# Altium footprint library CustomizedLib.PcbLib: 15 footprints
Each footprint in its own frame and in the unit in brackets; x right, y up, seen from the top. Pads: shape width x height; smd on the part's side, far side on the other; paste and mask are expansions set on the pad; w line width, h text height; cw(c..) or ccw(c..) is an arc to the next point about the centre after c.
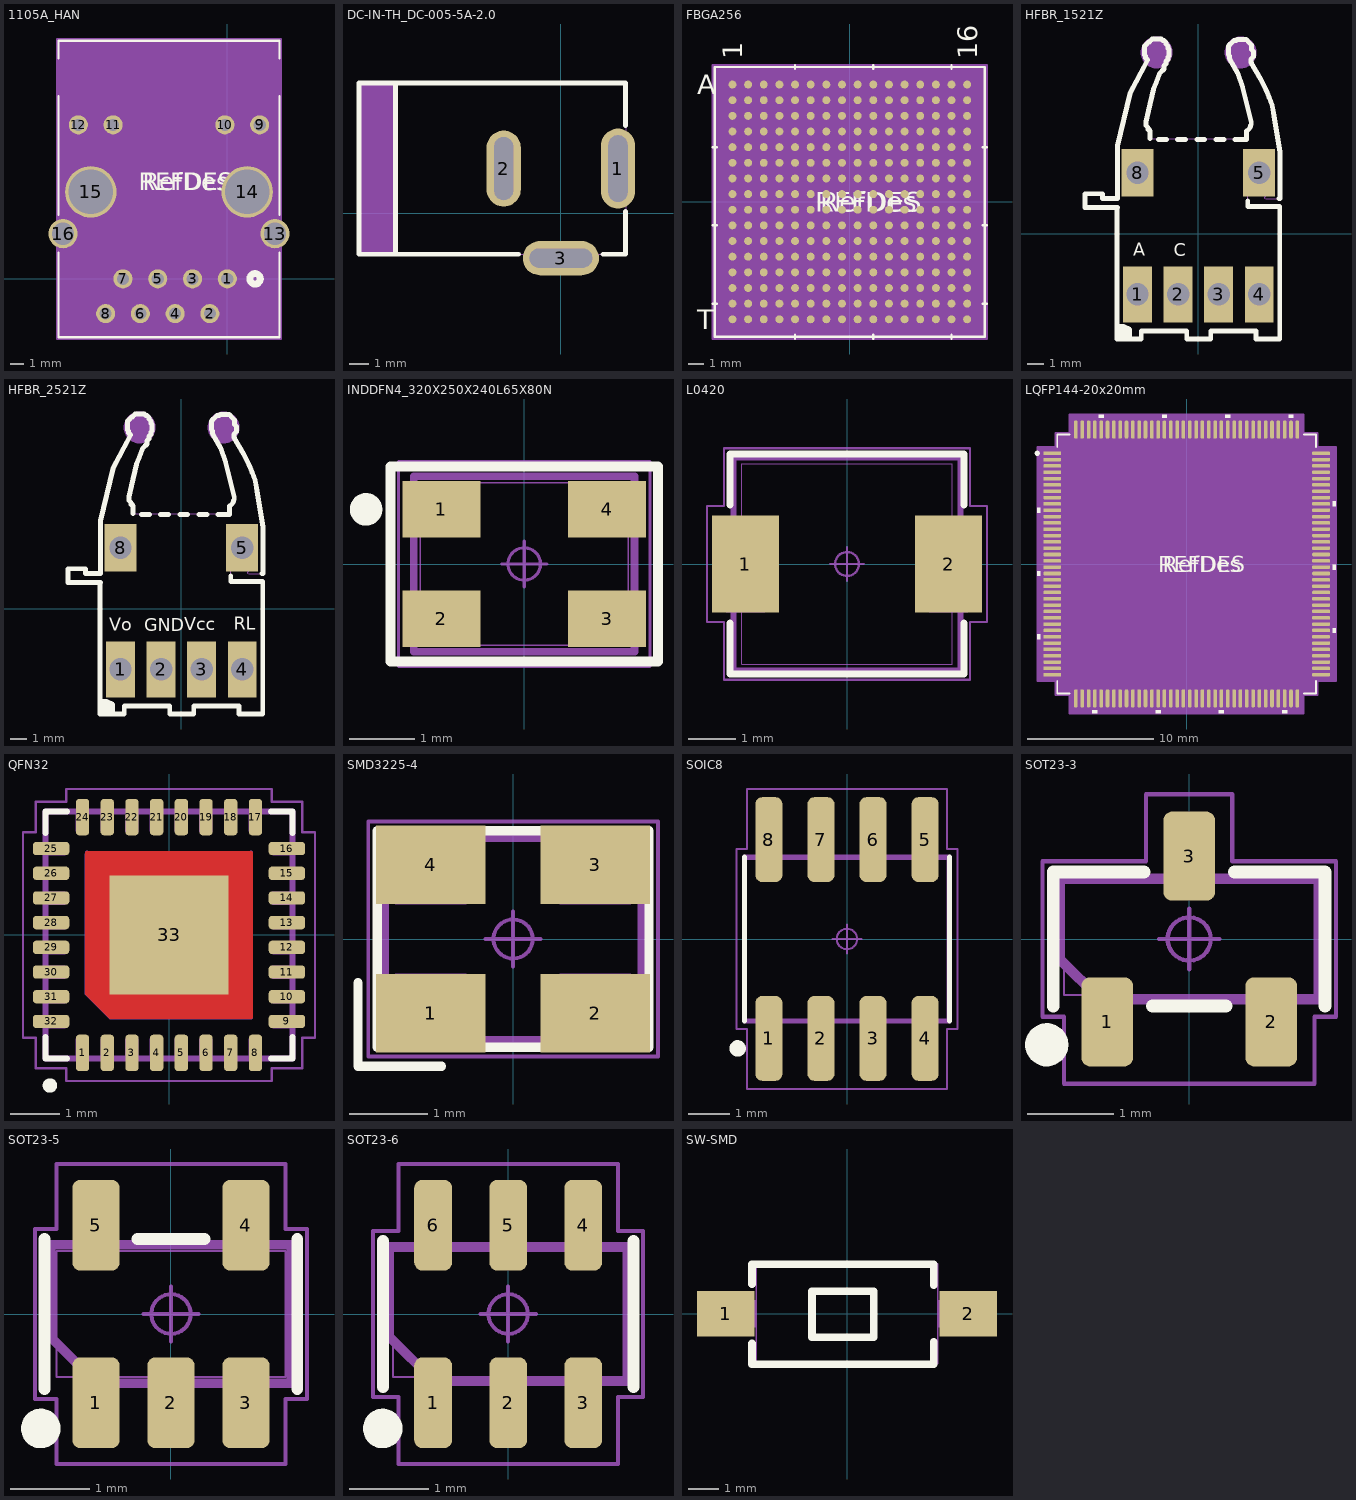
[diagram p0: the footprints below, top view; thin cyan lines are the x and y axes]

## 1105A_HAN [mil]
pads (16):
  round 55 / inner round 60 / far side round 55 hole 35 paste-99999 mask+0: 1(0,0) 2(-50,-100) 3(-100,0) 4(-150,-100) 5(-200,0) 6(-250,-100) 7(-300,0) 8(-350,-100) 9(93.19,442.91) 10(-6.81,442.91) 11(-328.46,442.91) 12(-428.46,442.91)
  round 84 / inner round 60 / far side round 84 hole 64 paste-99999 mask-42: 13(137.28,129.92) 16(-472.56,129.92)
  round 148 / inner round 60 / far side round 148 hole 128 paste-99999 mask-74: 14(57.36,250) 15(-392.64,250)
Top Overlay:
  circle w20: c80,0 r15
  lines w6: -485.14,76.28 -485.14,-168.08 149.86,-168.08 149.86,76.28 ; -485.14,183.57 -485.14,526.28 ; -485.14,633.57 -485.14,684.92 149.86,684.92 149.86,633.57 ; 149.86,183.57 149.86,526.28
  text "REFDES" at -255.14,254.92 h50
  text "RefDes" at -242.64,254.92 h50
Bottom Overlay:
  circle w20: c70,0 r15
Mechanical 13:
  circle w20: c0,-60 r15
  lines w1: -480.14,-163.08 -480.14,679.92 144.86,679.92 144.86,-163.08 -480.14,-163.08
  text "RefDes2" at -255.14,254.92 h50
Mechanical 15:
  region: 154.86,689.92 -490.14,689.92 -490.14,-173.08 154.86,-173.08
  lines w6: -490.14,-173.08 154.86,-173.08 154.86,689.92 -490.14,689.92 -490.14,-173.08
3D body "HANRUN HR911105A.stp": height 549.21, standoff -78.74, extent -484.25,-168.5 145.67,681.89

## DC-IN-TH_DC-005-5A-2.0 [mm]
pads (3):
  oval 1.8x4.2 hole 1 slot 3.5 at 90 deg: 1(3,2.352)
  oval 1.8x4 hole 1 slot 3.3 at 90 deg: 2(-3,2.352)
  oval 4x1.8 hole 1 slot 3.3 at 0 deg: 3(0,-2.352)
Top Overlay:
  lines w0.254: -8.681,-2.148 -8.681,6.852 ; -2.213,-2.148 -10.6,-2.148 -10.6,6.852 3.4,6.852 3.4,4.61 ; 2.212,-2.148 3.4,-2.148 3.4,0.094
Mechanical 6:
  region: -10.6,6.802 -8.75,6.802 -8.75,-2.148 -10.65,-2.148
Mechanical 15:
  region: -1.25,-2.498 1.25,-2.498 1.25,-2.098 -1.25,-2.098
  region: -1.25,-2.202 1.25,-2.202 1.25,-2.502 -1.25,-2.502
  region: -3.15,1.102 -3.15,3.602 -2.85,3.602 -2.85,1.102
  region: 3.15,3.602 3.15,1.102 2.85,1.102 2.85,3.602
  region: 3.463,6.852 3.463,6.827 3.428,6.792 3.378,6.792 3.343,6.827 3.343,6.852 3.343,6.876 3.378,6.912 3.428,6.912 3.463,6.876 3.463,6.852
  lines w0.051: -10.6,-2.148 -10.6,6.852 3.4,6.852 3.403,-2.148 -10.6,-2.148
3D body "DC-005-5A-2.0.stp": height 11.1, standoff -3.5, extent -10.698,-2.541 3.302,6.859

## FBGA256 [mm]
pads (256):
  round 0.508 smd paste+0 mask+0: A1(-7.5,7.5) A2(-6.5,7.5) A3(-5.5,7.5) A4(-4.5,7.5) A5(-3.5,7.5) A6(-2.5,7.5) A7(-1.5,7.5) A8(-0.5,7.5) A9(0.5,7.5) A10(1.5,7.5) A11(2.5,7.5) A12(3.5,7.5) A13(4.5,7.5) A14(5.5,7.5) A15(6.5,7.5) A16(7.5,7.5) B1(-7.5,6.5) B2(-6.5,6.5) B3(-5.5,6.5) B4(-4.5,6.5) B5(-3.5,6.5) B6(-2.5,6.5) B7(-1.5,6.5) B8(-0.5,6.5) B9(0.5,6.5) B10(1.5,6.5) B11(2.5,6.5) B12(3.5,6.5) B13(4.5,6.5) B14(5.5,6.5) B15(6.5,6.5) B16(7.5,6.5) C1(-7.5,5.5) C2(-6.5,5.5) C3(-5.5,5.5) C4(-4.5,5.5) C5(-3.5,5.5) C6(-2.5,5.5) C7(-1.5,5.5) C8(-0.5,5.5) C9(0.5,5.5) C10(1.5,5.5) C11(2.5,5.5) C12(3.5,5.5) C13(4.5,5.5) C14(5.5,5.5) C15(6.5,5.5) C16(7.5,5.5) D1(-7.5,4.5) D2(-6.5,4.5) D3(-5.5,4.5) D4(-4.5,4.5) D5(-3.5,4.5) D6(-2.5,4.5) D7(-1.5,4.5) D8(-0.5,4.5) D9(0.5,4.5) D10(1.5,4.5) D11(2.5,4.5) D12(3.5,4.5) D13(4.5,4.5) D14(5.5,4.5) D15(6.5,4.5) D16(7.5,4.5) E1(-7.5,3.5) E2(-6.5,3.5) E3(-5.5,3.5) E4(-4.5,3.5) E5(-3.5,3.5) E6(-2.5,3.5) E7(-1.5,3.5) E8(-0.5,3.5) E9(0.5,3.5) E10(1.5,3.5) E11(2.5,3.5) E12(3.5,3.5) E13(4.5,3.5) E14(5.5,3.5) E15(6.5,3.5) E16(7.5,3.5) F1(-7.5,2.5) F2(-6.5,2.5) F3(-5.5,2.5) F4(-4.5,2.5) F5(-3.5,2.5) F6(-2.5,2.5) F7(-1.5,2.5) F8(-0.5,2.5) F9(0.5,2.5) F10(1.5,2.5) F11(2.5,2.5) F12(3.5,2.5) F13(4.5,2.5) F14(5.5,2.5) F15(6.5,2.5) F16(7.5,2.5) G1(-7.5,1.5) G2(-6.5,1.5) G3(-5.5,1.5) G4(-4.5,1.5) G5(-3.5,1.5) G6(-2.5,1.5) G7(-1.5,1.5) G8(-0.5,1.5) G9(0.5,1.5) G10(1.5,1.5) G11(2.5,1.5) G12(3.5,1.5) G13(4.5,1.5) G14(5.5,1.5) G15(6.5,1.5) G16(7.5,1.5) H1(-7.5,0.5) H2(-6.5,0.5) H3(-5.5,0.5) H4(-4.5,0.5) H5(-3.5,0.5) H6(-2.5,0.5) H7(-1.5,0.5) H8(-0.5,0.5) H9(0.5,0.5) H10(1.5,0.5) H11(2.5,0.5) H12(3.5,0.5) H13(4.5,0.5) H14(5.5,0.5) H15(6.5,0.5) H16(7.5,0.5) J1(-7.5,-0.5) J2(-6.5,-0.5) J3(-5.5,-0.5) J4(-4.5,-0.5) J5(-3.5,-0.5) J6(-2.5,-0.5) J7(-1.5,-0.5) J8(-0.5,-0.5) J9(0.5,-0.5) J10(1.5,-0.5) J11(2.5,-0.5) J12(3.5,-0.5) J13(4.5,-0.5) J14(5.5,-0.5) J15(6.5,-0.5) J16(7.5,-0.5) K1(-7.5,-1.5) K2(-6.5,-1.5) K3(-5.5,-1.5) K4(-4.5,-1.5) K5(-3.5,-1.5) K6(-2.5,-1.5) K7(-1.5,-1.5) K8(-0.5,-1.5) K9(0.5,-1.5) K10(1.5,-1.5) K11(2.5,-1.5) K12(3.5,-1.5) K13(4.5,-1.5) K14(5.5,-1.5) K15(6.5,-1.5) K16(7.5,-1.5) L1(-7.5,-2.5) L2(-6.5,-2.5) L3(-5.5,-2.5) L4(-4.5,-2.5) L5(-3.5,-2.5) L6(-2.5,-2.5) L7(-1.5,-2.5) L8(-0.5,-2.5) L9(0.5,-2.5) L10(1.5,-2.5) L11(2.5,-2.5) L12(3.5,-2.5) L13(4.5,-2.5) L14(5.5,-2.5) L15(6.5,-2.5) L16(7.5,-2.5) M1(-7.5,-3.5) M2(-6.5,-3.5) M3(-5.5,-3.5) M4(-4.5,-3.5) M5(-3.5,-3.5) M6(-2.5,-3.5) M7(-1.5,-3.5) M8(-0.5,-3.5) M9(0.5,-3.5) M10(1.5,-3.5) M11(2.5,-3.5) M12(3.5,-3.5) M13(4.5,-3.5) M14(5.5,-3.5) M15(6.5,-3.5) M16(7.5,-3.5) N1(-7.5,-4.5) N2(-6.5,-4.5) N3(-5.5,-4.5) N4(-4.5,-4.5) N5(-3.5,-4.5) N6(-2.5,-4.5) N7(-1.5,-4.5) N8(-0.5,-4.5) N9(0.5,-4.5) N10(1.5,-4.5) N11(2.5,-4.5) N12(3.5,-4.5) N13(4.5,-4.5) N14(5.5,-4.5) N15(6.5,-4.5) N16(7.5,-4.5) P1(-7.5,-5.5) P2(-6.5,-5.5) P3(-5.5,-5.5) P4(-4.5,-5.5) P5(-3.5,-5.5) P6(-2.5,-5.5) P7(-1.5,-5.5) P8(-0.5,-5.5) P9(0.5,-5.5) P10(1.5,-5.5) P11(2.5,-5.5) P12(3.5,-5.5) P13(4.5,-5.5) P14(5.5,-5.5) P15(6.5,-5.5) P16(7.5,-5.5) R1(-7.5,-6.5) R2(-6.5,-6.5) R3(-5.5,-6.5) R4(-4.5,-6.5) R5(-3.5,-6.5) R6(-2.5,-6.5) R7(-1.5,-6.5) R8(-0.5,-6.5) R9(0.5,-6.5) R10(1.5,-6.5) R11(2.5,-6.5) R12(3.5,-6.5) R13(4.5,-6.5) R14(5.5,-6.5) R15(6.5,-6.5) R16(7.5,-6.5) T1(-7.5,-7.5) T2(-6.5,-7.5) T3(-5.5,-7.5) T4(-4.5,-7.5) T5(-3.5,-7.5) T6(-2.5,-7.5) T7(-1.5,-7.5) T8(-0.5,-7.5) T9(0.5,-7.5) T10(1.5,-7.5) T11(2.5,-7.5) T12(3.5,-7.5) T13(4.5,-7.5) T14(5.5,-7.5) T15(6.5,-7.5) T16(7.5,-7.5)
Top Overlay:
  lines w0.152: -8.75,-6.5 -8.496,-6.5 ; -8.75,-1.5 -8.496,-1.5 ; -8.75,3.5 -8.496,3.5 ; -3.5,-8.75 -3.5,-8.496 ; -3.5,8.496 -3.5,8.75 ; 1.5,-8.75 1.5,-8.496 ; 1.5,8.496 1.5,8.75 ; 6.5,-8.75 6.5,-8.496 ; 6.5,8.496 6.5,8.75 ; 8.496,-6.5 8.75,-6.5 ; 8.496,-1.5 8.75,-1.5 ; 8.496,3.5 8.75,3.5 ; -8.623,-8.623 -8.623,8.623 8.623,8.623 8.623,-8.623 -8.623,-8.623
  text "REFDES" at -2.222,-0.635 h1.27
  text "RefDes" at -1.905,-0.635 h1.27
  text "16" at 8.135,9.131 h1.27
  text "1" at -6.865,9.131 h1.27
  text "T" at -9.766,-8.135 h1.27
  text "A" at -9.766,6.865 h1.27
Bottom Overlay:
  text "16" at 6.865,9.131 h1.27
  text "1" at -8.135,9.131 h1.27
  text "T" at -9.131,-8.135 h1.27
  text "A" at -9.131,6.865 h1.27
Mechanical 13:
  lines w0.025: -8.496,7.996 -7.996,8.496 ; -8.496,-8.496 -8.496,8.496 8.496,8.496 8.496,-8.496 -8.496,-8.496
  text "RefDes2" at -2.222,-0.635 h1.27
  text "16" at 8.135,9.131 h1.27
  text "1" at -6.865,9.131 h1.27
  text "T" at -9.766,-8.135 h1.27
  text "A" at -9.766,6.865 h1.27
Mechanical 15:
  region: 8.75,-8.75 -8.75,-8.75 -8.75,8.75 8.75,8.75
  lines w0.152: -8.75,-8.75 8.75,-8.75 8.75,8.75 -8.75,8.75 -8.75,-8.75
3D body "FBGA256_INT.step": height 1.55, standoff 0, extent -8.496,-8.496 8.496,8.496

## HFBR_1521Z [mm]
pads (6):
  rect 1.801x3.5 hole 1.402: 1(-3.81,-3.81) 2(-1.27,-3.81) 3(1.27,-3.81) 4(3.81,-3.81)
  rect 1.999x3 hole 1.402: 5(3.81,3.81) 8(-3.81,3.81)
Top Overlay:
  lines w0.305: -5.1,-5.809 -4.699,-5.809 -4.3,-6.01 -4.3,-6.609 ; -5.1,1.635 -5.1,0.79 -5.1,-2.108 -5.1,-5.309 -5.1,-6.609 -3.575,-6.609 -3.575,-6.105 -0.726,-6.105 -0.726,-6.604 0.775,-6.604 0.775,-6.108 3.621,-6.108 3.621,-6.603 5.1,-6.603 ; -5.072,1.635 -7.104,1.635 -7.108,1.639 -7.108,2.494 -6.015,2.494 -6.015,2.194 -5.071,2.194 -5.071,5.496 -4.29,8.75 -3.185,10.862 -3.185,10.886 -3.307,11.008 -3.307,11.126 -3.377,11.196 -3.377,11.398 -3.377,11.619 -3.377,11.733 -3.293,11.817 -3.293,11.821 -3.1,12.014 -3.068,12.014 -2.898,12.184 -2.535,12.184 -2.314,12.184 -2.22,12.09 -2.15,12.09 -2.023,11.963 -2.023,11.869 -1.891,11.737 -1.891,11.609 -1.835,11.553 -1.835,11.299 -1.835,11.134 -1.905,11.064 -1.905,10.918 -2.032,10.791 -2.032,10.636 -2.154,10.514 -2.154,10.312 -2.413,10.053 -2.64,9.459 -2.818,9.034 -3.125,7.706 -3.274,6.996 -3.274,6.789 -3.274,6.755 -3.154,6.635 -3.154,6.522 -3.094,6.522 -3.02,6.448 -3.02,5.954 ; -4.9,-6.51 -4.9,-6.01 ; -4.6,-6.408 -4.6,-6.01 ; -2.504,5.89 -2.004,5.89 ; -1.303,5.89 -0.803,5.89 ; -0.104,5.89 0.396,5.89 ; 1.097,5.89 1.598,5.89 ; 2.299,5.89 2.799,5.89 3.02,5.89 3.02,6.447 3.074,6.447 3.225,6.598 3.225,6.651 3.279,6.705 3.279,6.783 3.315,6.819 3.315,6.968 2.779,9.144 2.463,10.052 2.218,10.48 1.945,10.998 1.945,11.149 1.889,11.205 1.889,11.407 1.889,11.6 1.889,11.741 1.964,11.816 1.964,11.844 2.082,11.962 2.105,11.962 2.246,12.103 2.373,12.103 2.444,12.174 2.768,12.174 3.004,12.174 3.098,12.08 3.098,12.056 3.342,11.812 3.342,11.525 3.45,11.417 3.45,11.177 3.45,11.087 3.29,10.927 3.29,10.739 ; 3.097,2.053 3.097,1.692 5.1,1.692 5.1,0.79 5.1,-2.108 5.1,-5.309 5.1,-6.609 ; 3.342,10.687 3.29,10.739 ; 5.036,2.19 5.125,2.19 5.125,5.09 4.739,7.382 4.632,8.016 4.434,8.534 4.247,8.985 3.908,9.679 3.29,10.739
  text "C" at -1.537,-1.414 h0.8
  text "A" at -4.077,-1.398 h0.8
Mechanical 6:
  circle w1: c-2.616,11.354 r0.5
  circle w1: c2.645,11.353 r0.5
Mechanical 15:
  drawing of 141 lines, arcs and shapes, not listed
3D body "HFBR-2521Z.STEP": height 7.62, standoff -3.81, extent -7.112,-6.528 5.08,12.267

## HFBR_2521Z [mm]
pads (6):
  rect 1.801x3.5 hole 1.402: 1(-3.81,-3.81) 2(-1.27,-3.81) 3(1.27,-3.81) 4(3.81,-3.81)
  rect 1.999x3 hole 1.402: 5(3.81,3.81) 8(-3.81,3.81)
Top Overlay:
  lines w0.305: -5.1,-5.809 -4.699,-5.809 -4.3,-6.01 -4.3,-6.609 ; -5.1,1.635 -5.1,0.79 -5.1,-2.108 -5.1,-5.309 -5.1,-6.609 -3.575,-6.609 -3.575,-6.105 -0.726,-6.105 -0.726,-6.604 0.775,-6.604 0.775,-6.108 3.621,-6.108 3.621,-6.603 5.1,-6.603 ; -5.072,1.635 -7.104,1.635 -7.108,1.639 -7.108,2.494 -6.015,2.494 -6.015,2.194 -5.071,2.194 -5.071,5.496 -4.29,8.75 -3.185,10.862 -3.185,10.886 -3.307,11.008 -3.307,11.126 -3.377,11.196 -3.377,11.398 -3.377,11.619 -3.377,11.733 -3.293,11.817 -3.293,11.821 -3.1,12.014 -3.068,12.014 -2.898,12.184 -2.535,12.184 -2.314,12.184 -2.22,12.09 -2.15,12.09 -2.023,11.963 -2.023,11.869 -1.891,11.737 -1.891,11.609 -1.835,11.553 -1.835,11.299 -1.835,11.134 -1.905,11.064 -1.905,10.918 -2.032,10.791 -2.032,10.636 -2.154,10.514 -2.154,10.312 -2.413,10.053 -2.64,9.459 -2.818,9.034 -3.125,7.706 -3.274,6.996 -3.274,6.789 -3.274,6.755 -3.154,6.635 -3.154,6.522 -3.094,6.522 -3.02,6.448 -3.02,5.954 ; -4.9,-6.51 -4.9,-6.01 ; -4.6,-6.408 -4.6,-6.01 ; -2.504,5.89 -2.004,5.89 ; -1.303,5.89 -0.803,5.89 ; -0.104,5.89 0.396,5.89 ; 1.097,5.89 1.598,5.89 ; 2.299,5.89 2.799,5.89 3.02,5.89 3.02,6.447 3.074,6.447 3.225,6.598 3.225,6.651 3.279,6.705 3.279,6.783 3.315,6.819 3.315,6.968 2.779,9.144 2.463,10.052 2.218,10.48 1.945,10.998 1.945,11.149 1.889,11.205 1.889,11.407 1.889,11.6 1.889,11.741 1.964,11.816 1.964,11.844 2.082,11.962 2.105,11.962 2.246,12.103 2.373,12.103 2.444,12.174 2.768,12.174 3.004,12.174 3.098,12.08 3.098,12.056 3.342,11.812 3.342,11.525 3.45,11.417 3.45,11.177 3.45,11.087 3.29,10.927 3.29,10.739 ; 3.097,2.053 3.097,1.692 5.1,1.692 5.1,0.79 5.1,-2.108 5.1,-5.309 5.1,-6.609 ; 3.342,10.687 3.29,10.739 ; 5.036,2.19 5.125,2.19 5.125,5.09 4.739,7.382 4.632,8.016 4.434,8.534 4.247,8.985 3.908,9.679 3.29,10.739
  text "Vcc" at 0.176,-1.353 h0.8
  text "RL" at 3.292,-1.335 h0.8
  text "GND" at -2.324,-1.414 h0.8
  text "Vo" at -4.507,-1.398 h0.8
Mechanical 6:
  circle w1: c-2.616,11.354 r0.5
  circle w1: c2.645,11.353 r0.5
Mechanical 15:
  drawing of 141 lines, arcs and shapes, not listed
3D body "HFBR-2521Z.STEP": height 7.62, standoff -3.81, extent -7.112,-6.528 5.08,12.267

## INDDFN4_320X250X240L65X80N [mm] "Inductor, Dual Flat No-Lead (DFN) 4 pins, 2.55 mm pitch; 3.20 mm L X 2.50 mm W X 2.40 mm H body"
height 2.4
pads (4):
  rect 1.2x0.87 smd: 1(-1.275,0.841) 2(-1.275,-0.841) 3(1.275,-0.841) 4(1.275,0.841)
Top Overlay:
  circle w0.25: c-2.435,0.841 r0.125
  lines w0.15: -2.06,-1.501 -2.06,1.501 2.06,1.501 2.06,-1.501 -2.06,-1.501
Mechanical 9:
  lines w0.12: -1.7,-1.35 -1.7,1.35 1.7,1.35 1.7,-1.35 -1.7,-1.35
Mechanical 15:
  lines w0.05: -1.935,-1.576 1.935,-1.576 1.935,1.576 -1.935,1.576 -1.935,-1.576
Mechanical 17:
  circle w0.05: c0,0 r0.25
  lines w0.05: -0.35,0 0.35,0 ; 0,-0.35 0,0.35
Mechanical 21:
  lines w0.025: -1.6,-1.25 -0.95,-1.25 -0.95,-0.45 -1.6,-0.45 -1.6,-1.25 ; -1.6,-1.25 -1.6,1.25 ; -1.6,-1.25 1.6,-1.25 ; -1.6,1.25 -1.6,0.45 -0.95,0.45 -0.95,1.25 -1.6,1.25 ; -1.6,1.25 1.6,1.25 ; 1.6,-1.25 1.6,-0.45 0.95,-0.45 0.95,-1.25 1.6,-1.25 ; 1.6,-1.25 1.6,1.25 ; 1.6,1.25 0.95,1.25 0.95,0.45 1.6,0.45 1.6,1.25
3D body "INDDFN4_320X250X240L65X80.STEP": height 2.4, standoff 0, extent -1.6,-1.25 1.6,1.25

## L0420 [mm] "Inductor, Dual Flat No-Lead (DFN) 2 pins; 4.40 mm L X 4.20 mm W X 1.80 mm H body"
height 1.8
pads (2):
  rect 1.4x2.03 smd: 1(-2.125,0) 2(2.125,0)
Top Overlay:
  lines w0.15: -2.45,-1.24 -2.45,-2.3 2.45,-2.3 2.45,-1.24 ; -2.45,1.24 -2.45,2.3 2.45,2.3 2.45,1.24
Mechanical 9:
  lines w0.12: -2.375,-2.225 -2.375,2.225 2.375,2.225 2.375,-2.225 -2.375,-2.225
Mechanical 15:
  lines w0.05: -2.93,-1.215 -2.93,1.215 -2.575,1.215 -2.575,2.425 2.575,2.425 2.575,1.215 2.93,1.215 2.93,-1.215 2.575,-1.215 2.575,-2.425 -2.575,-2.425 -2.575,-1.215 -2.93,-1.215
Mechanical 17:
  circle w0.05: c0,0 r0.25
  lines w0.05: -0.35,0 0.35,0 ; 0,-0.35 0,0.35
Mechanical 21:
  lines w0.025: -2.525,-1 -1.725,-1 -1.725,1 -2.525,1 -2.525,-1 ; -2.2,-2.1 -2.2,2.1 2.2,2.1 2.2,-2.1 -2.2,-2.1 ; 1.725,-1 1.725,1 2.525,1 2.525,-1 1.725,-1
3D body "INDDFN2_440X420X180L80X200.STEP": height 1.8, standoff 0, extent -2.525,-2.1 2.525,2.1

## LQFP144-20x20mm [mm]
pads (144):
  rrect50% 1.4x0.28 smd: 1(-10.625,8.75) 2(-10.625,8.25) 3(-10.625,7.75) 4(-10.625,7.25) 5(-10.625,6.75) 6(-10.625,6.25) 7(-10.625,5.75) 8(-10.625,5.25) 9(-10.625,4.75) 10(-10.625,4.25) 11(-10.625,3.75) 12(-10.625,3.25) 13(-10.625,2.75) 14(-10.625,2.25) 15(-10.625,1.75) 16(-10.625,1.25) 17(-10.625,0.75) 18(-10.625,0.25) 19(-10.625,-0.25) 20(-10.625,-0.75) 21(-10.625,-1.25) 22(-10.625,-1.75) 23(-10.625,-2.25) 24(-10.625,-2.75) 25(-10.625,-3.25) 26(-10.625,-3.75) 27(-10.625,-4.25) 28(-10.625,-4.75) 29(-10.625,-5.25) 30(-10.625,-5.75) 31(-10.625,-6.25) 32(-10.625,-6.75) 33(-10.625,-7.25) 34(-10.625,-7.75) 35(-10.625,-8.25) 36(-10.625,-8.75) 73(10.625,-8.75) 74(10.625,-8.25) 75(10.625,-7.75) 76(10.625,-7.25) 77(10.625,-6.75) 78(10.625,-6.25) 79(10.625,-5.75) 80(10.625,-5.25) 81(10.625,-4.75) 82(10.625,-4.25) 83(10.625,-3.75) 84(10.625,-3.25) 85(10.625,-2.75) 86(10.625,-2.25) 87(10.625,-1.75) 88(10.625,-1.25) 89(10.625,-0.75) 90(10.625,-0.25) 91(10.625,0.25) 92(10.625,0.75) 93(10.625,1.25) 94(10.625,1.75) 95(10.625,2.25) 96(10.625,2.75) 97(10.625,3.25) 98(10.625,3.75) 99(10.625,4.25) 100(10.625,4.75) 101(10.625,5.25) 102(10.625,5.75) 103(10.625,6.25) 104(10.625,6.75) 105(10.625,7.25) 106(10.625,7.75) 107(10.625,8.25) 108(10.625,8.75)
  rrect50% 0.28x1.4 smd: 37(-8.75,-10.625) 38(-8.25,-10.625) 39(-7.75,-10.625) 40(-7.25,-10.625) 41(-6.75,-10.625) 42(-6.25,-10.625) 43(-5.75,-10.625) 44(-5.25,-10.625) 45(-4.75,-10.625) 46(-4.25,-10.625) 47(-3.75,-10.625) 48(-3.25,-10.625) 49(-2.75,-10.625) 50(-2.25,-10.625) 51(-1.75,-10.625) 52(-1.25,-10.625) 53(-0.75,-10.625) 54(-0.25,-10.625) 55(0.25,-10.625) 56(0.75,-10.625) 57(1.25,-10.625) 58(1.75,-10.625) 59(2.25,-10.625) 60(2.75,-10.625) 61(3.25,-10.625) 62(3.75,-10.625) 63(4.25,-10.625) 64(4.75,-10.625) 65(5.25,-10.625) 66(5.75,-10.625) 67(6.25,-10.625) 68(6.75,-10.625) 69(7.25,-10.625) 70(7.75,-10.625) 71(8.25,-10.625) 72(8.75,-10.625) 109(8.75,10.625) 110(8.25,10.625) 111(7.75,10.625) 112(7.25,10.625) 113(6.75,10.625) 114(6.25,10.625) 115(5.75,10.625) 116(5.25,10.625) 117(4.75,10.625) 118(4.25,10.625) 119(3.75,10.625) 120(3.25,10.625) 121(2.75,10.625) 122(2.25,10.625) 123(1.75,10.625) 124(1.25,10.625) 125(0.75,10.625) 126(0.25,10.625) 127(-0.25,10.625) 128(-0.75,10.625) 129(-1.25,10.625) 130(-1.75,10.625) 131(-2.25,10.625) 132(-2.75,10.625) 133(-3.25,10.625) 134(-3.75,10.625) 135(-4.25,10.625) 136(-4.75,10.625) 137(-5.25,10.625) 138(-5.75,10.625) 139(-6.25,10.625) 140(-6.75,10.625) 141(-7.25,10.625) 142(-7.75,10.625) 143(-8.25,10.625) 144(-8.75,10.625)
Top Overlay:
  circle w0.2: c-11.802,8.75 r0.1
  region: -6.559,11.552 -6.94,11.552 -6.94,11.806 -6.559,11.806
  region: -1.559,11.552 -1.94,11.552 -1.94,11.806 -1.559,11.806
  region: 3.441,11.552 3.06,11.552 3.06,11.806 3.441,11.806
  region: 8.441,11.552 8.06,11.552 8.06,11.806 8.441,11.806
  region: 11.552,4.941 11.806,4.941 11.806,4.56 11.552,4.56
  region: 11.552,-0.059 11.806,-0.059 11.806,-0.44 11.552,-0.44
  region: 11.552,-5.059 11.806,-5.059 11.806,-5.44 11.552,-5.44
  region: 7.94,-11.552 7.559,-11.552 7.559,-11.806 7.94,-11.806
  region: 2.94,-11.552 2.559,-11.552 2.559,-11.806 2.94,-11.806
  region: -2.06,-11.552 -2.441,-11.552 -2.441,-11.806 -2.06,-11.806
  region: -7.06,-11.552 -7.441,-11.552 -7.441,-11.806 -7.06,-11.806
  region: -11.552,-5.56 -11.806,-5.56 -11.806,-5.941 -11.552,-5.941
  region: -11.552,-0.56 -11.806,-0.56 -11.806,-0.941 -11.552,-0.941
  region: -11.552,4.44 -11.806,4.44 -11.806,4.059 -11.552,4.059
  lines w0.152: -10.223,-9.261 -10.223,-10.223 -9.261,-10.223 ; -10.223,9.261 -10.223,10.223 -9.261,10.223 ; 9.261,-10.223 10.223,-10.223 10.223,-9.261 ; 9.261,10.223 10.223,10.223 10.223,9.261
  text "REFDES" at -2.222,-0.635 h1.27
  text "RefDes" at -1.905,-0.635 h1.27
Mechanical 13:
  circle w0: c-9.317,8.75 r0.076
  lines w0.025: -10.096,8.826 -8.826,10.096 ; -10.096,-10.096 -10.096,10.096 10.096,10.096 10.096,-10.096 -10.096,-10.096
  text "RefDes2" at -2.222,-0.635 h1.27
Mechanical 15:
  region: -9.258,-10.351 -10.351,-10.351 -10.351,-9.258 -11.806,-9.258 -11.806,9.258 -10.351,9.258 -10.351,10.351 -9.258,10.351 -9.258,11.806 9.258,11.806 9.258,10.351 10.351,10.351 10.351,9.258 11.806,9.258 11.806,-9.258 10.351,-9.258 10.351,-10.351 9.258,-10.351 9.258,-11.806 -9.258,-11.806
  lines w0.152: -11.806,-9.258 -11.806,9.258 -10.351,9.258 -10.351,10.351 -9.258,10.351 -9.258,11.806 9.258,11.806 9.258,10.351 10.351,10.351 10.351,9.258 11.806,9.258 11.806,-9.258 10.351,-9.258 10.351,-10.351 9.258,-10.351 9.258,-11.806 -9.258,-11.806 -9.258,-10.351 -10.351,-10.351 -10.351,-9.258 -11.806,-9.258
3D body "LQFP144-20x20mm.step": height 1.6, standoff 0, extent -10.948,-10.948 10.948,10.948

## QFN32 [mm] "Quad Flat No-Lead (QFN) with Thermal Tab, 0.50 mm pitch;  rect., 8 pin X 6 pin, 5.00 mm L X 4.00 mm W X 0.80 mm H body"
height 0.75
pads (33):
  rrect50% 0.27x0.737 smd mask+0.1: 1(-1.75,-2.387) 2(-1.25,-2.387) 3(-0.75,-2.387) 4(-0.25,-2.387) 5(0.25,-2.387) 6(0.75,-2.387) 7(1.25,-2.387) 8(1.75,-2.387) 17(1.75,2.387) 18(1.25,2.387) 19(0.75,2.387) 20(0.25,2.387) 21(-0.25,2.387) 22(-0.75,2.387) 23(-1.25,2.387) 24(-1.75,2.387)
  rrect50% 0.737x0.27 smd mask+0.1: 9(2.387,-1.75) 10(2.387,-1.25) 11(2.387,-0.75) 12(2.387,-0.25) 13(2.387,0.25) 14(2.387,0.75) 15(2.387,1.25) 16(2.387,1.75) 25(-2.387,1.75) 26(-2.387,1.25) 27(-2.387,0.75) 28(-2.387,0.25) 29(-2.387,-0.25) 30(-2.387,-0.75) 31(-2.387,-1.25) 32(-2.387,-1.75)
  rect 2.4x2.4 smd paste-2.4 mask-2.4: 33(0,0)
Top Layer:
  region: 1.7,0 1.7,-1.65 1.699,-1.658 1.698,-1.666 1.695,-1.673 1.69,-1.679 1.685,-1.685 1.679,-1.69 1.673,-1.695 1.666,-1.698 1.658,-1.699 -1.2,-1.7 -1.7,-1.2 -1.7,1.65 -1.699,1.658 -1.698,1.666 -1.695,1.673 -1.69,1.679 -1.685,1.685 -1.679,1.69 -1.673,1.695 -1.666,1.698 -1.658,1.699 1.65,1.7 1.658,1.699 1.666,1.698 1.673,1.695 1.679,1.69 1.685,1.685 1.69,1.679 1.695,1.673 1.698,1.666 1.699,1.658 1.7,1.65
Top Overlay:
  circle w0.15: c-2.413,-3.048 r0.07
  lines w0.12: -2.5,-2.065 -2.5,-2.5 -2.065,-2.5 ; -2.5,2.065 -2.5,2.5 -2.065,2.5 ; 2.065,-2.5 2.5,-2.5 2.5,-2.065 ; 2.065,2.5 2.5,2.5 2.5,2.065
Top Paste:
  region: 1.451,-1.451 0.249,-1.451 0.249,-0.249 1.451,-0.249
  region: 1.451,0.249 0.249,0.249 0.249,1.451 1.451,1.451
  region: -0.249,-1.375 -1.375,-1.375 -1.375,-0.249 -0.249,-0.249
  region: -0.249,0.249 -1.451,0.249 -1.451,1.451 -0.249,1.451
Top Solder:
  region: 1.7,0 1.7,-1.65 1.699,-1.658 1.698,-1.666 1.695,-1.673 1.69,-1.679 1.685,-1.685 1.679,-1.69 1.673,-1.695 1.666,-1.698 1.658,-1.699 -1.2,-1.7 -1.7,-1.2 -1.7,1.65 -1.699,1.658 -1.698,1.666 -1.695,1.673 -1.69,1.679 -1.685,1.685 -1.679,1.69 -1.673,1.695 -1.666,1.698 -1.658,1.699 1.65,1.7 1.658,1.699 1.666,1.698 1.673,1.695 1.679,1.69 1.685,1.685 1.69,1.679 1.695,1.673 1.698,1.666 1.699,1.658 1.7,1.65
Mechanical 11:
  lines w0.12: -2.5,-2.5 -2.5,2.5 2.5,2.5 2.5,-2.5 -2.5,-2.5
Mechanical 12:
  lines w0.025: -2.5,-2.5 -2.5,2.5 2.5,2.5 2.5,-2.5 -2.5,-2.5 ; -2.5,-1.875 -2.1,-1.875 -2.1,-1.625 -2.5,-1.625 -2.5,-1.875 ; -2.5,-1.375 -2.1,-1.375 -2.1,-1.125 -2.5,-1.125 -2.5,-1.375 ; -2.5,-0.875 -2.1,-0.875 -2.1,-0.625 -2.5,-0.625 -2.5,-0.875 ; -2.5,-0.375 -2.1,-0.375 -2.1,-0.125 -2.5,-0.125 -2.5,-0.375 ; -2.5,0.125 -2.1,0.125 -2.1,0.375 -2.5,0.375 -2.5,0.125 ; -2.5,0.625 -2.1,0.625 -2.1,0.875 -2.5,0.875 -2.5,0.625 ; -2.5,1.125 -2.1,1.125 -2.1,1.375 -2.5,1.375 -2.5,1.125 ; -2.5,1.625 -2.1,1.625 -2.1,1.875 -2.5,1.875 -2.5,1.625 ; -1.875,-2.5 -1.625,-2.5 -1.625,-2.1 -1.875,-2.1 -1.875,-2.5 ; -1.875,2.1 -1.625,2.1 -1.625,2.5 -1.875,2.5 -1.875,2.1 ; -1.7,-1.2 -1.7,1.65 cw(c-1.65,1.65) -1.65,1.7 1.65,1.7 cw(c1.65,1.65) 1.7,1.65 1.7,-1.65 cw(c1.65,-1.65) 1.65,-1.7 -1.2,-1.7 -1.7,-1.2 ; -1.375,-2.5 -1.125,-2.5 -1.125,-2.1 -1.375,-2.1 -1.375,-2.5 ; -1.375,2.1 -1.125,2.1 -1.125,2.5 -1.375,2.5 -1.375,2.1 ; -0.875,-2.5 -0.625,-2.5 -0.625,-2.1 -0.875,-2.1 -0.875,-2.5 ; -0.875,2.1 -0.625,2.1 -0.625,2.5 -0.875,2.5 -0.875,2.1 ; -0.375,-2.5 -0.125,-2.5 -0.125,-2.1 -0.375,-2.1 -0.375,-2.5 ; -0.375,2.1 -0.125,2.1 -0.125,2.5 -0.375,2.5 -0.375,2.1 ; 0.125,-2.5 0.375,-2.5 0.375,-2.1 0.125,-2.1 0.125,-2.5 ; 0.125,2.1 0.375,2.1 0.375,2.5 0.125,2.5 0.125,2.1 ; 0.625,-2.5 0.875,-2.5 0.875,-2.1 0.625,-2.1 0.625,-2.5 ; 0.625,2.1 0.875,2.1 0.875,2.5 0.625,2.5 0.625,2.1 ; 1.125,-2.5 1.375,-2.5 1.375,-2.1 1.125,-2.1 1.125,-2.5 ; 1.125,2.1 1.375,2.1 1.375,2.5 1.125,2.5 1.125,2.1 ; 1.625,-2.5 1.875,-2.5 1.875,-2.1 1.625,-2.1 1.625,-2.5 ; 1.625,2.1 1.875,2.1 1.875,2.5 1.625,2.5 1.625,2.1 ; 2.1,-1.875 2.1,-1.625 2.5,-1.625 2.5,-1.875 2.1,-1.875 ; 2.1,-1.375 2.1,-1.125 2.5,-1.125 2.5,-1.375 2.1,-1.375 ; 2.1,-0.875 2.1,-0.625 2.5,-0.625 2.5,-0.875 2.1,-0.875 ; 2.1,-0.375 2.1,-0.125 2.5,-0.125 2.5,-0.375 2.1,-0.375 ; 2.1,0.125 2.1,0.375 2.5,0.375 2.5,0.125 2.1,0.125 ; 2.1,0.625 2.1,0.875 2.5,0.875 2.5,0.625 2.1,0.625 ; 2.1,1.125 2.1,1.375 2.5,1.375 2.5,1.125 2.1,1.125 ; 2.1,1.625 2.1,1.875 2.5,1.875 2.5,1.625 2.1,1.625
Mechanical 15:
  circle w0.05: c0,0 r0.25
  lines w0.05: -0.35,0 0.35,0 ; 0,-0.35 0,0.35 ; -2.956,-2.085 -2.956,2.085 -2.7,2.085 -2.7,2.7 -2.085,2.7 -2.085,2.956 2.085,2.956 2.085,2.7 2.7,2.7 2.7,2.085 2.956,2.085 2.956,-2.085 2.7,-2.085 2.7,-2.7 2.085,-2.7 2.085,-2.956 -2.085,-2.956 -2.085,-2.7 -2.7,-2.7 -2.7,-2.085 -2.956,-2.085
3D body "QFN33P50_500X500X75L40X25T340.STEP": height 0.75, standoff 0, extent -2.55,-2.55 2.55,2.55

## SMD3225-4 [mm] "Diode, Dual Flat No-Lead, 0.75 mm Pitch, 4 pin; 1.20 mm L X 0.775 mm W X 0.40 mm H body"
height 0.9
pads (4):
  rect 1.4x1 smd: 1(-1.05,-0.95) 2(1.05,-0.95) 3(1.05,0.95) 4(-1.05,0.95)
Top Overlay:
  lines w0.12: -1.981,-0.558 -1.981,-1.625 -0.914,-1.625 ; -1.735,-1.38 1.735,-1.38 1.735,1.38 -1.735,1.38 -1.735,-1.38
Mechanical 11:
  lines w0.12: -1.65,-1.3 1.65,-1.3 1.65,1.3 -1.65,1.3 -1.65,-1.3
Mechanical 12:
  lines w0.025: -1.6,-1.25 1.6,-1.25 1.6,1.25 -1.6,1.25 -1.6,-1.25 ; -1.5,-1.15 -1.5,-0.45 -0.6,-0.45 -0.6,-1.15 -1.5,-1.15 ; -1.5,0.45 -1.5,1.15 -0.6,1.15 -0.6,0.45 -1.5,0.45 ; 0.6,-1.15 1.5,-1.15 1.5,-0.45 0.6,-0.45 0.6,-1.15 ; 0.6,0.45 1.5,0.45 1.5,1.15 0.6,1.15 0.6,0.45
Mechanical 15:
  circle w0.05: c0,0 r0.25
  lines w0.05: -0.35,0 0.35,0 ; 0,-0.35 0,0.35 ; -1.85,-1.5 -1.85,1.5 1.85,1.5 1.85,-1.5 -1.85,-1.5
3D body "SMD3225-4.STEP": height 0.9, standoff 0, extent -1.6,-1.25 1.6,1.25

## SOIC8 [mm] "Small Outline Pkg (SOP), 0.65 mm pitch; 24 pin, 7.80 mm L X 4.40 mm W X 1.20 mm H body"
height 1.6
pads (8):
  rrect50% 0.662x2.069 smd: 1(-1.905,-2.423) 2(-0.635,-2.423) 3(0.635,-2.423) 4(1.905,-2.423) 5(1.905,2.423) 6(0.635,2.423) 7(-0.635,2.423) 8(-1.905,2.423)
Top Overlay:
  circle w0.2: c-2.667,-2.667 r0.1
  lines w0.12: -2.5,-2 -2.5,2 ; 2.5,-2 2.5,2
Mechanical 11:
  lines w0.12: -2.5,-2 2.5,-2 2.5,2 -2.5,2 -2.5,-2
Mechanical 12:
  lines w0.025: -2.45,-1.95 2.45,-1.95 2.45,1.95 -2.45,1.95 -2.45,-1.95 ; -2.115,-3 -2.115,-2.164 -1.695,-2.164 -1.695,-3 -2.115,-3 ; -2.115,2.164 -2.115,3 -1.695,3 -1.695,2.164 -2.115,2.164 ; -0.845,-3 -0.845,-2.164 -0.425,-2.164 -0.425,-3 -0.845,-3 ; -0.845,2.164 -0.845,3 -0.425,3 -0.425,2.164 -0.845,2.164 ; 0.425,-3 0.425,-2.164 0.845,-2.164 0.845,-3 0.425,-3 ; 0.425,2.164 0.425,3 0.845,3 0.845,2.164 0.425,2.164 ; 1.695,-3 1.695,-2.165 2.115,-2.165 2.115,-3 1.695,-3 ; 1.695,2.165 1.695,3 2.115,3 2.115,2.165 1.695,2.165
Mechanical 15:
  circle w0.05: c0,0 r0.25
  lines w0.05: -0.35,0 0.35,0 ; 0,-0.35 0,0.35 ; -2.7,-2.2 -2.436,-2.2 -2.436,-3.658 2.436,-3.658 2.436,-2.2 2.7,-2.2 2.7,2.2 2.436,2.2 2.436,3.658 -2.436,3.658 -2.436,2.2 -2.7,2.2 -2.7,-2.2
3D body "SOIC8P127_490X600X160L83X42.STEP": height 1.6, standoff 0, extent -2.45,-3 2.45,3

## SOT23-3 [mm] "Small Outline Transistor, SOT-23 Type, 0.95 mm pitch; 3 pin, 2.90 mm L X 1.30 mm W X 1.15 mm H body"
height 1.15
pads (3):
  rrect33% 0.6x1.03 smd: 1(-0.95,-0.96) 2(0.95,-0.96) 3(0,0.96)
Top Overlay:
  circle w0.25: c-1.65,-1.225 r0.125
  lines w0.15: -1.575,-0.775 -1.575,0.775 -0.525,0.775 ; -0.425,-0.775 0.425,-0.775 ; 0.525,0.775 1.575,0.775 1.575,-0.775
Mechanical 9:
  lines w0.12: -1.5,-0.233 -1.5,0.7 1.5,0.7 1.5,-0.7 -1.033,-0.7 -1.5,-0.233
Mechanical 15:
  lines w0.05: -1.7,-0.9 -1.45,-0.9 -1.45,-1.675 1.45,-1.675 1.45,-0.9 1.7,-0.9 1.7,0.9 0.5,0.9 0.5,1.675 -0.5,1.675 -0.5,0.9 -1.7,0.9 -1.7,-0.9
Mechanical 17:
  circle w0.05: c0,0 r0.25
  lines w0.05: -0.35,0 0.35,0 ; 0,-0.35 0,0.35
Mechanical 21:
  lines w0.025: -1.45,-0.65 1.45,-0.65 1.45,0.65 -1.45,0.65 -1.45,-0.65 ; -1.15,-1.2 -1.15,-0.8 -0.75,-0.8 -0.75,-1.2 -1.15,-1.2 ; -0.2,0.8 -0.2,1.2 0.2,1.2 0.2,0.8 -0.2,0.8 ; 0.75,-1.2 0.75,-0.8 1.15,-0.8 1.15,-1.2 0.75,-1.2
3D body "SOT23-3P95_290X240X115L40X40.STEP": height 1.15, standoff 0, extent -1.45,-1.2 1.45,1.2

## SOT23-5 [mm] "Small Outline Transistor, SOT-23 Type, 0.95 mm pitch; 5 pin, 2.90 mm L X 1.60 mm W X 1.45 mm H body"
height 1.45
pads (5):
  rrect33% 0.6x1.15 smd: 1(-0.95,-1.125) 2(0,-1.125) 3(0.95,-1.125) 4(0.95,1.125) 5(-0.95,1.125)
Top Overlay:
  circle w0.25: c-1.65,-1.45 r0.125
  lines w0.15: -1.6,-0.95 -1.6,0.95 ; -0.425,0.95 0.425,0.95 ; 1.6,-0.95 1.6,0.95
Mechanical 9:
  lines w0.12: -1.525,-0.292 -0.942,-0.875 1.525,-0.875 1.525,0.875 -1.525,0.875 -1.525,-0.292
Mechanical 15:
  lines w0.05: -1.725,-1.075 -1.725,1.075 -1.45,1.075 -1.45,1.9 1.45,1.9 1.45,1.075 1.725,1.075 1.725,-1.075 1.45,-1.075 1.45,-1.9 -1.45,-1.9 -1.45,-1.075 -1.725,-1.075
Mechanical 17:
  circle w0.05: c0,0 r0.25
  lines w0.05: -0.35,0 0.35,0 ; 0,-0.35 0,0.35
Mechanical 21:
  lines w0.025: -1.45,-0.8 -1.45,0.8 1.45,0.8 1.45,-0.8 -1.45,-0.8 ; -1.15,-1.4 -0.75,-1.4 -0.75,-0.95 -1.15,-0.95 -1.15,-1.4 ; -1.15,0.95 -0.75,0.95 -0.75,1.4 -1.15,1.4 -1.15,0.95 ; -0.2,-1.4 0.2,-1.4 0.2,-0.95 -0.2,-0.95 -0.2,-1.4 ; 0.75,-1.4 1.15,-1.4 1.15,-0.95 0.75,-0.95 0.75,-1.4 ; 0.75,0.95 1.15,0.95 1.15,1.4 0.75,1.4 0.75,0.95
3D body "SOT23-5P95_290X280X145L45X40.STEP": height 1.45, standoff 0, extent -1.45,-1.4 1.45,1.4

## SOT23-6 [mm] "Small Outline Transistor, SOT-23 Type, 0.95 mm pitch; 6 pin, 2.92 mm L X 1.60 mm W X 1.25 mm H body"
height 1.25
pads (6):
  rrect42% 0.48x1.15 smd: 1(-0.95,-1.125) 2(0,-1.125) 3(0.95,-1.125) 4(0.95,1.125) 5(0,1.125) 6(-0.95,1.125)
Top Overlay:
  circle w0.25: c-1.59,-1.45 r0.125
  lines w0.15: -1.585,-0.925 -1.585,0.925 ; 1.585,-0.925 1.585,0.925
Mechanical 9:
  lines w0.12: -1.51,-0.283 -0.943,-0.85 1.51,-0.85 1.51,0.85 -1.51,0.85 -1.51,-0.283
Mechanical 15:
  lines w0.05: -1.71,-1.05 -1.71,1.05 -1.39,1.05 -1.39,1.9 1.39,1.9 1.39,1.05 1.71,1.05 1.71,-1.05 1.39,-1.05 1.39,-1.9 -1.39,-1.9 -1.39,-1.05 -1.71,-1.05
Mechanical 17:
  circle w0.05: c0,0 r0.25
  lines w0.05: -0.35,0 0.35,0 ; 0,-0.35 0,0.35
Mechanical 21:
  lines w0.025: -1.46,-0.8 -1.46,0.8 1.46,0.8 1.46,-0.8 -1.46,-0.8 ; -1.125,-1.4 -0.775,-1.4 -0.775,-0.95 -1.125,-0.95 -1.125,-1.4 ; -1.125,0.95 -0.775,0.95 -0.775,1.4 -1.125,1.4 -1.125,0.95 ; -0.175,-1.4 0.175,-1.4 0.175,-0.95 -0.175,-0.95 -0.175,-1.4 ; -0.175,0.95 0.175,0.95 0.175,1.4 -0.175,1.4 -0.175,0.95 ; 0.775,-1.4 1.125,-1.4 1.125,-0.95 0.775,-0.95 0.775,-1.4 ; 0.775,0.95 1.125,0.95 1.125,1.4 0.775,1.4 0.775,0.95
3D body "SOT23-6P95_292X280X125L45X35.STEP": height 1.25, standoff 0, extent -1.46,-1.4 1.46,1.4

## SW-SMD [mm] "L6.0-W3.3-LS8.0"
pads (2):
  rect 1.9x1.5 smd: 1(-4,0) 2(4,0)
Top Overlay:
  lines w0.254: -3.137,-0.981 -3.137,-1.668 2.863,-1.668 2.863,-0.935 ; -3.137,0.981 -3.137,1.632 2.863,1.632 2.863,0.935 ; -1.153,-0.78 0.879,-0.78 0.879,0.744 -1.153,0.744 -1.153,-0.78
Mechanical 15:
  region: -3.999,-0.45 -3.999,0.45 -3.299,0.45 -3.299,-0.45
  region: 3.3,-0.45 3.3,0.45 4,0.45 4,-0.45
  region: 3.62,0.45 3.62,-0.45 2.99,-0.45 2.99,0.45
  region: -3.62,-0.45 -3.62,0.45 -2.99,0.45 -2.99,-0.45
  lines w0.051: -3,-1.65 -3,1.65 3,1.65 3,-1.65 -3,-1.65
3D body "User Library-User Library-Button_SMD_3_6x6_1x2_5.STEP": height 2.5, standoff -0.02, extent -4.012,-1.85 4.012,1.85